# EAGLE library part AB08X5 (library abracon)
RTC CLOCK/CALENDAR
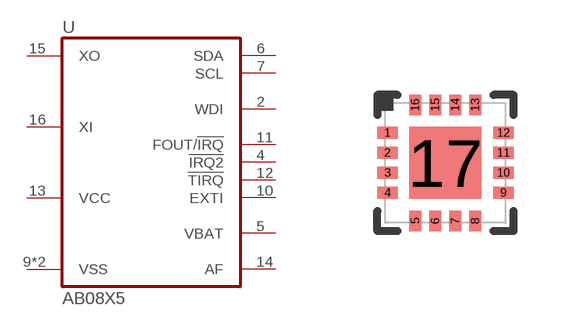
[diagram p0: symbol with the pads of VQFN16; footprint VQFN16]

Designator prefix U

## AB08X5  [VQFN16]
2  WDI  in
4  !IRQ2!  oc
5  VBAT  in
6  SDA
7  SCL  in
9  VSS  pwr
10  EXTI  in
11  FOUT/!IRQ!  oc
12  !TIRQ!  oc
13  VCC  pwr
14  AF  in
15  XO  out
16  XI  in
17  VSS  pwr

## Footprint VQFN16 (pad centres in mm)
VQFN16 body 3 x 3 x 0.85 mm
smd 0.52 x 0.3: 1 -1.45,0.75; 2 -1.45,0.25; 3 -1.45,-0.25; 4 -1.45,-0.75; 9 1.45,-0.75; 10 1.45,-0.25; 11 1.45,0.25; 12 1.45,0.75
smd 0.3 x 0.52: 5 -0.75,-1.45; 6 -0.25,-1.45; 7 0.25,-1.45; 8 0.75,-1.45; 13 0.75,1.45; 14 0.25,1.45; 15 -0.25,1.45; 16 -0.75,1.45
smd 1.8 x 1.8: 17 0,0